# Altium schematic symbol library PJ-025.SchLib: 1 symbol
Pins are listed as number, name and electrical type; pins without a type are passive.

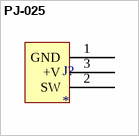
[diagram p0: symbol PJ-025]

## PJ-025
designator J?
4.0 x 7.0 mm, 3.0 A, Horizontal, Through Hole, Kinked Pins, Dc Power Jack Connector; Manufacturer: Same Sky; Manufacturer Part Number: PJ-025; Current Rating: 3A; Inside Diameter: 4mm; Number of Conductors: 2; Outside Diameter: 7mm; Shielding: No; Voltage Rating: 24V; Supplier: Arrow Electronics; Supplier Part Number: PJ-025; RoHS: Compliant; Category: Power Connectors; Stock: 5127; Pricing: 1=0.3382, 360=0.326, 600=0.316, 1080=0.31, 2520=0.303 (USD); Lifecycle Status: Production; Mounting Technology: Through Hole; REACH SVHC: Yes; Schedule B: 8536695050, 8536695050|8536695050|8536695050|8536695050|8536695050|8536695050|8536695050|8536695050|8536695050|8536695050|8536695050|8536695050|8536695050|8536695050|8536695050|8536695050|8536695050|8536695050|8536695050|8536695050|8536695050|8536695050|8536695050, 8536695050|8536695050|8536695050|8536695050|8536695050|8536695050|8536695050|8536695050|8536695050|8536695050|8536695050|8536695050|8536695050|8536695050|8536695050|8536695050|8536695050|8536695050|8536695050|8536695050|8536695050|8536695050|8536695050|85; Voltage Rating (DC): 24V; ComponentLink1URL: https://datasheet.octopart.com:443/PJ-025-Same-Sky-datasheet-188904093.pdf?src-supplier=Same+Sky; ComponentLink1Description: https://datasheet.octopart.com:443/PJ-025-Same-Sky-datasheet-188904093.pdf?src-supplier=Same+Sky; ComponentLink2URL: https://datasheet.octopart.com:443/PJ-025-Same-Sky-datasheet-181917259.pdf?src-supplier=Same+Sky; ComponentLink2Description: https://datasheet.octopart.com:443/PJ-025-Same-Sky-datasheet-181917259.pdf?src-supplier=Same+Sky; ComponentLink3URL: https://datasheet.octopart.com:443/PJ-025-Same-Sky-datasheet-181917258.pdf?src-supplier=Same+Sky; ComponentLink3Description: https://datasheet.octopart.com:443/PJ-025-Same-Sky-datasheet-181917258.pdf?src-supplier=Same+Sky; ComponentLink4URL: https://datasheet.octopart.com:443/PJ-025-CUI-Devices-datasheet-175924733.pdf?src-supplier=Same+Sky; ComponentLink4Description: https://datasheet.octopart.com:443/PJ-025-CUI-Devices-datasheet-175924733.pdf?src-supplier=Same+Sky; ComponentLink5URL: https://datasheet.octopart.com:443/PJ-025-CUI-Devices-datasheet-137940876.pdf?src-supplier=Same+Sky; ComponentLink5Description: https://datasheet.octopart.com:443/PJ-025-CUI-Devices-datasheet-137940876.pdf?src-supplier=Same+Sky; ComponentLink6URL: https://datasheet.octopart.com:443/PJ-025-CUI-Devices-datasheet-180437258.pdf?src-supplier=IHS; ComponentLink6Description: https://datasheet.octopart.com:443/PJ-025-CUI-Devices-datasheet-180437258.pdf?src-supplier=IHS; ComponentLink7URL: https://datasheet.octopart.com:443/PJ-025-Same-Sky-datasheet-190141965.pdf?src-supplier=element14+APAC; ComponentLink7Description: https://datasheet.octopart.com:443/PJ-025-Same-Sky-datasheet-190141965.pdf?src-supplier=element14+APAC; ComponentLink8URL: https://datasheet.octopart.com:443/PJ-025-Same-Sky-datasheet-182880889.pdf?src-supplier=Electro+Sonic; ComponentLink8Description: https://datasheet.octopart.com:443/PJ-025-Same-Sky-datasheet-182880889.pdf?src-supplier=Electro+Sonic; ComponentLink9URL: https://datasheet.octopart.com:443/PJ-025-CUI-Devices-datasheet-175925554.pdf?src-supplier=Master+Electronics; ComponentLink9Description: https://datasheet.octopart.com:443/PJ-025-CUI-Devices-datasheet-175925554.pdf?src-supplier=Master+Electronics; ComponentLink10URL: https://datasheet.octopart.com:443/PJ-025-CUI-Devices-datasheet-141000199.pdf?src-supplier=Master+Electronics; ComponentLink10Description: https://datasheet.octopart.com:443/PJ-025-CUI-Devices-datasheet-141000199.pdf?src-supplier=Master+Electronics; ComponentLink11URL: https://datasheet.octopart.com:443/PJ-025-CUI-Devices-datasheet-103109417.pdf?src-supplier=Master+Electronics; ComponentLink11Description: https://datasheet.octopart.com:443/PJ-025-CUI-Devices-datasheet-103109417.pdf?src-supplier=Master+Electronics; ComponentLink12URL: https://datasheet.octopart.com:443/PJ-025-Same-Sky-datasheet-189105144.pdf?src-supplier=Master+Electronics; ComponentLink12Description: https://datasheet.octopart.com:443/PJ-025-Same-Sky-datasheet-189105144.pdf?src-supplier=Master+Electronics; ComponentLink13URL: https://datasheet.octopart.com:443/PJ-025-Same-Sky-datasheet-182049815.pdf?src-supplier=Future+Electronics; ComponentLink13Description: https://datasheet.octopart.com:443/PJ-025-Same-Sky-datasheet-182049815.pdf?src-supplier=Future+Electronics; ComponentLink14URL: https://datasheet.octopart.com:443/PJ-025-CUI-Devices-datasheet-175929693.pdf?src-supplier=Future+Electronics; ComponentLink14Description: https://datasheet.octopart.com:443/PJ-025-CUI-Devices-datasheet-175929693.pdf?src-supplier=Future+Electronics; ComponentLink15URL: https://datasheet.octopart.com:443/PJ-025-CUI-Devices-datasheet-175925267.pdf?src-supplier=Future+Electronics; ComponentLink15Description: https://datasheet.octopart.com:443/PJ-025-CUI-Devices-datasheet-175925267.pdf?src-supplier=Future+Electronics; ComponentLink16URL: https://datasheet.octopart.com:443/PJ-025-CUI-Devices-datasheet-169538540.pdf?src-supplier=Future+Electronics; ComponentLink16Description: https://datasheet.octopart.com:443/PJ-025-CUI-Devices-datasheet-169538540.pdf?src-supplier=Future+Electronics; ComponentLink17URL: https://datasheet.octopart.com:443/PJ-025-CUI-Devices-datasheet-140871789.pdf?src-supplier=Future+Electronics; ComponentLink17Description: https://datasheet.octopart.com:443/PJ-025-CUI-Devices-datasheet-140871789.pdf?src-supplier=Future+Electronics; ComponentLink18URL: https://datasheet.octopart.com:443/PJ-025-CUI-Devices-datasheet-175927549.pdf?src-supplier=CUI+Devices+SCT; ComponentLink18Description: https://datasheet.octopart.com:443/PJ-025-CUI-Devices-datasheet-175927549.pdf?src-supplier=CUI+Devices+SCT; ComponentLink19URL: https://datasheet.octopart.com:443/PJ-025-CUI-Devices-datasheet-142370643.pdf?src-supplier=CUI+Devices+SCT; ComponentLink19Description: https://datasheet.octopart.com:443/PJ-025-CUI-Devices-datasheet-142370643.pdf?src-supplier=CUI+Devices+SCT; ComponentLink20URL: https://octopart.com:443/opatz8j6/c1?t=A0sbCVernK5m6E0oQdfBuOlo-IfxzwFD9W94eDtR9FzbMKSQ30DzPkp28GyrtlK3tg6a678tHXSGnsaZ71HaKTUWUp33VL5zL0lCBTPZsgdHpmDtPeC6y7DllqeA-ue4bZVI5bam5oBHX_iQa9kvhtNSdJkb01QPj5k-7gXenO_MfCsngz6ampY6lLVZ4iJWfH3FycRTyGEHh3Setix357tmXNJehefUO1VmTnPiLIGc8UPvABZXLJUlYIJb13duFCRtdKUzS4CC4vaKxfVBZYbQan6_35wLyj4MgBpnwDOkEaqTamJhuLzjvfyhwJghlw5MLBvx6NGptAKZC1B8WFMZhlSzOf5b&src-supplier=Compliance+Statements; ComponentLink20Description: https://octopart.com:443/opatz8j6/c1?t=A0sbCVernK5m6E0oQdfBuOlo-IfxzwFD9W94eDtR9FzbMKSQ30DzPkp28GyrtlK3tg6a678tHXSGnsaZ71HaKTUWUp33VL5zL0lCBTPZsgdHpmDtPeC6y7DllqeA-ue4bZVI5bam5oBHX_iQa9kvhtNSdJkb01QPj5k-7gXenO_MfCsngz6ampY6lLVZ4iJWfH3FycRTyGEHh3Setix357tmXNJehefUO1VmTnPiLIGc8UPvABZXLJUlYIJb13duFCRtdKUzS4CC4vaKxfVBZYbQan6_35wLyj4MgBpnwDOkEaqTamJhuLzjvfyhwJghlw5MLBvx6NGptAKZC1B8WFMZhlSzOf5b&src-supplier=Compliance+Statements; ComponentLink21URL: https://octopart.com:443/opatz8j6/c1?t=c2-mXJBM8tR3Kjq7hbudDC0By4QcG-KdykyuhLDaFVDplXHpyOpW2busuNoGB__MV4F3E9sW7p8LZI_VkqyFY41C89rfhmyqZqCM_u-QqD7ecXKUqrgRgCVWuJjHsxAua9Z4iSBucFMy4MG2WTavCzu9oUA5ULAJEM7aYKqoC6TNfygjE0IJjwBWDnTl8itnuDETukSRB0nDHAN2qrZSPjcJC1wXMD8SXA3G63lJKS_6tTlXQAHAZ86ZpnOImctSyyjYAII9YUOMOvBBRSUKMVViV3T3yFtM4vuLMtE3mJIDNNGpyDSiPPE44EF7bOfc8C0JBdMv4eFyZzzrENoYYgoLkQc&src-supplier=Compliance+Statements; ComponentLink21Description: https://octopart.com:443/opatz8j6/c1?t=c2-mXJBM8tR3Kjq7hbudDC0By4QcG-KdykyuhLDaFVDplXHpyOpW2busuNoGB__MV4F3E9sW7p8LZI_VkqyFY41C89rfhmyqZqCM_u-QqD7ecXKUqrgRgCVWuJjHsxAua9Z4iSBucFMy4MG2WTavCzu9oUA5ULAJEM7aYKqoC6TNfygjE0IJjwBWDnTl8itnuDETukSRB0nDHAN2qrZSPjcJC1wXMD8SXA3G63lJKS_6tTlXQAHAZ86ZpnOImctSyyjYAII9YUOMOvBBRSUKMVViV3T3yFtM4vuLMtE3mJIDNNGpyDSiPPE44EF7bOfc8C0JBdMv4eFyZzzrENoYYgoLkQc&src-supplier=Compliance+Statements; ComponentLink22URL: https://octopart.com:443/opatz8j6/c1?t=smHv0KYRv6K2EsiSAEbAEJonZi5QzaXDSVdCEfP7SsPZ15JO-nG_DAfjmdA2TgliyuarNm0-qZA0NJmy99FQtVRSqKpcekJiLCEoGpMJ0yp0hHiogO_nfs0m1J74TE68VnieCMkqJqwBEkMnQWBbM0NCuiF4bcHbxY0gE7h61DF1DuejXr_B_O4jgHVx22ARvvKHcihjkoQ9_i6GsrfDWL9syulZaci3DBJynFX0ER4JonVx08f2b0ScNxJSGe5Fqtec_XUzZBXJnoXKZOYZJII4kAk_WXrnhrSiF3GonmrzlLxeHiIn5wo-g_q3nQmvHlxGexzt0A-lDhuLaGib5M5avHi1GOLX&src-supplier=Compliance+Statements; ComponentLink22Description: https://octopart.com:443/opatz8j6/c1?t=smHv0KYRv6K2EsiSAEbAEJonZi5QzaXDSVdCEfP7SsPZ15JO-nG_DAfjmdA2TgliyuarNm0-qZA0NJmy99FQtVRSqKpcekJiLCEoGpMJ0yp0hHiogO_nfs0m1J74TE68VnieCMkqJqwBEkMnQWBbM0NCuiF4bcHbxY0gE7h61DF1DuejXr_B_O4jgHVx22ARvvKHcihjkoQ9_i6GsrfDWL9syulZaci3DBJynFX0ER4JonVx08f2b0ScNxJSGe5Fqtec_XUzZBXJnoXKZOYZJII4kAk_WXrnhrSiF3GonmrzlLxeHiIn5wo-g_q3nQmvHlxGexzt0A-lDhuLaGib5M5avHi1GOLX&src-supplier=Compliance+Statements; ComponentLink23URL: https://octopart.com:443/opatz8j6/c1?t=T-9NMOOmMCBumrJ4ofLIwO6sYIeVX2GmB67aR6rYzZa61D91D97aNJhLyKA6cyghCBJVV-et-Hjb1f97oC-DkCqKzDixE10qv7Rrb6pj_epDJ_hQwP_0WcLiOcm5ZVMR6saKpBF2yBdo4x7UTHrWdRnZj68s1zDExKA1xSIX57nWl8TgxkiOiA2gHALyxvhUm0XzYDxyuVyyKnwSH7Q44qGaCXWRzb1EkKqiFFuyK6580KrjN5zyAv9X6G5v6d3_NK_l61qPVneKAerAxhfpHxi8yz7u_MO5fXOrenIC07MzR_1OmhuS-gg7t__qvGtNsTauRLKC7xbET8pBFp3mjZpripI&src-supplier=Compliance+Statements; ComponentLink23Description: https://octopart.com:443/opatz8j6/c1?t=T-9NMOOmMCBumrJ4ofLIwO6sYIeVX2GmB67aR6rYzZa61D91D97aNJhLyKA6cyghCBJVV-et-Hjb1f97oC-DkCqKzDixE10qv7Rrb6pj_epDJ_hQwP_0WcLiOcm5ZVMR6saKpBF2yBdo4x7UTHrWdRnZj68s1zDExKA1xSIX57nWl8TgxkiOiA2gHALyxvhUm0XzYDxyuVyyKnwSH7Q44qGaCXWRzb1EkKqiFFuyK6580KrjN5zyAv9X6G5v6d3_NK_l61qPVneKAerAxhfpHxi8yz7u_MO5fXOrenIC07MzR_1OmhuS-gg7t__qvGtNsTauRLKC7xbET8pBFp3mjZpripI&src-supplier=Compliance+Statements
pins: 1 GND (power), 2 SW (power), 3 +V (power)